# EAGLE library part TMUX1109PWR (library TMUX1109PWR)
5 V, +/-2.5 V, low-leakage-current, 4:1, 2-channel precision multiplexer Source: Datasheet <http://www.ti.com/lit/gpn/TMUX1109>
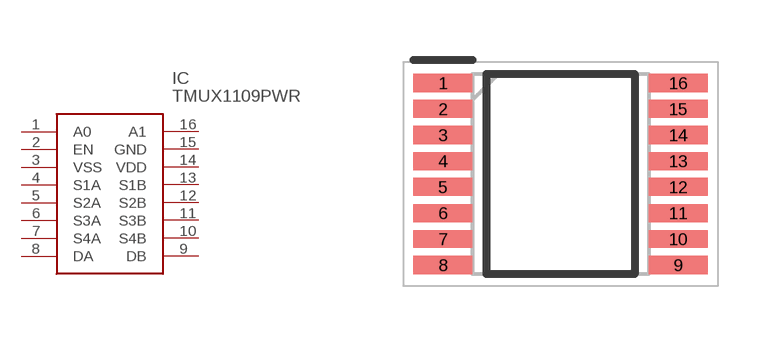
[diagram p0: symbol with the pads of SOP65P640X120-16N; footprint SOP65P640X120-16N]

Designator prefix IC

## TMUX1109PWR (Description: 5 V, +/-2.5 V, low-leakage-current, 4:1, 2-channel precision multiplexer; Height: 1.2mm; Manufacturer_Name: Texas Instruments; Manufacturer_Part_Number: TMUX1109PWR; Mouser_Part_Number: 595-TMUX1109PWR; Mouser_Price-Stock: https://www.mouser.co.uk/ProductDetail/Texas-Instruments/TMUX1109PWR?qs=l7cgNqFNU1i6NxWAXLnZXQ%3D%3D)  [SOP65P640X120-16N]
1  A0
2  EN
3  VSS
4  S1A
5  S2A
6  S3A
7  S4A
8  DA
9  DB
10  S4B
11  S3B
12  S2B
13  S1B
14  VDD
15  GND
16  A1

## Footprint SOP65P640X120-16N (pad centres in mm)
ADC128S052CIMTX/NOPB-1
smd 1.475 x 0.45: 1 -2.938,2.275; 2 -2.938,1.625; 3 -2.938,0.975; 4 -2.938,0.325; 5 -2.938,-0.325; 6 -2.938,-0.975; 7 -2.938,-1.625; 8 -2.938,-2.275; 9 2.938,-2.275; 10 2.938,-1.625; 11 2.938,-0.975; 12 2.938,-0.325; 13 2.938,0.325; 14 2.938,0.975; 15 2.938,1.625; 16 2.938,2.275